# Altium schematic symbol library Capacitors_Ceramic_SMD.SchLib: 2 symbols
Pins are listed as number, name and electrical type; pins without a type are passive.

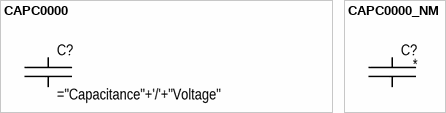
[diagram p0: symbols CAPC0000 to CAPC0000_NM]

## CAPC0000
designator C?
pins: 1, 2

## CAPC0000_NM
designator C?  (no BOM)
pins: 1, 2